# Altium schematic symbol library DNESP32S3M.SCHLIB: 13 symbols
Pins are listed as number, name and electrical type; pins without a type are passive.

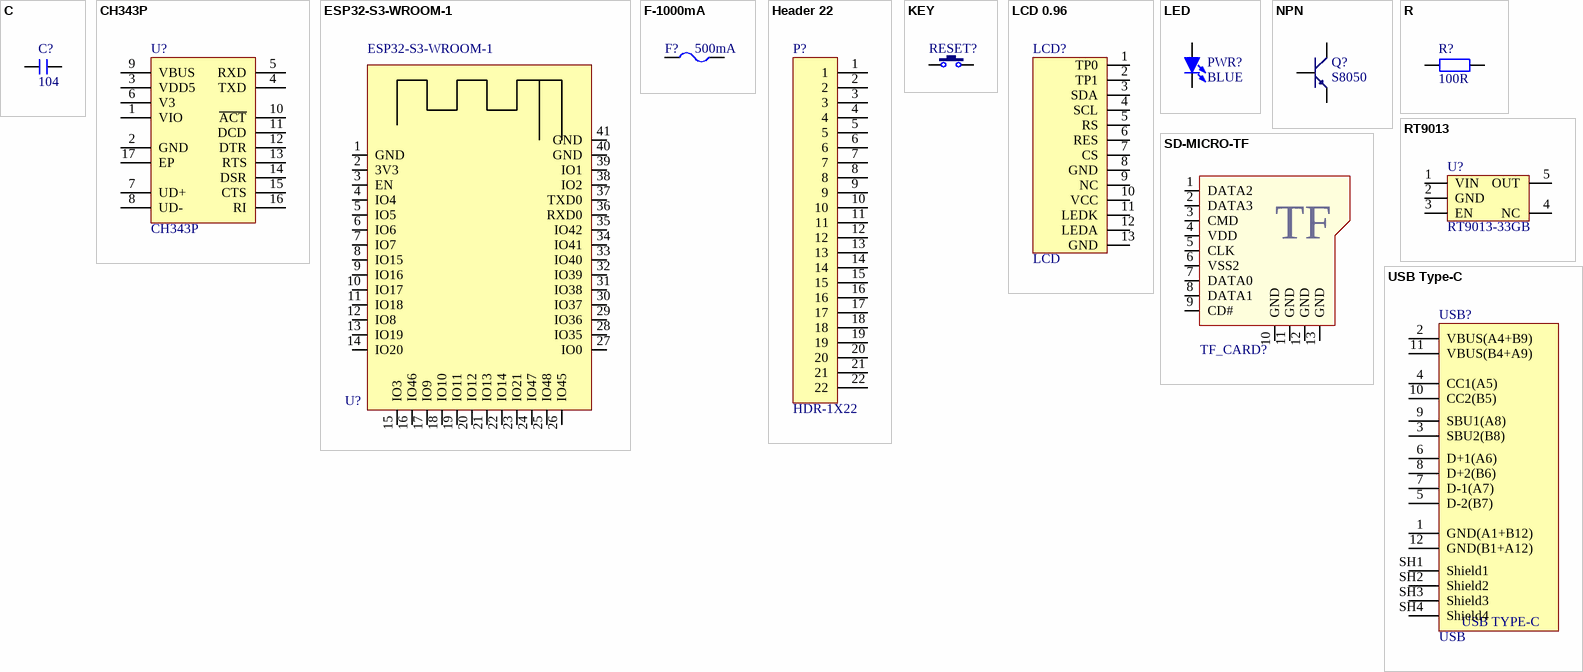
[diagram p0: symbols C to USB Type-C]

## C
designator C?, comment 104
无极性电容; BOM名称: 无极性贴片电容; 版权归属: 正点原子; 学习资源: www.openedv.com
footprint C 0201 (无极性贴片电容)
footprint C 0402 (无极性贴片电容)
footprint C 0603 (无极性贴片电容)
footprint C 0805 (无极性贴片电容)
footprint C 1206 (无极性贴片电容)
footprint C 1210 (无极性贴片电容)
footprint C 1808 (无极性贴片电容)
footprint C 1812 (无极性贴片电容)
footprint C 1825 (无极性贴片电容)
footprint C 2225 (无极性贴片电容)
pins: 1, 2

## CH343P
designator U?
USB2UART
footprint TQFN-16 (CH343P)
footprint QFN-16-1EP_3X3MM_P0.5MM_EP1.75X1.75MM
pins: 1 VIO, 2 GND, 3 VDD5, 4 TXD, 5 RXD, 6 V3, 7 UD+, 8 UD-, 9 VBUS, 10 ~{ACT}, 11 DCD, 12 DTR, 13 RTS, 14 DSR, 15 CTS, 16 RI, 17 EP

## ESP32-S3-WROOM-1
designator U?  (value not drawn)
footprint ESP32-S3-WROOM (ESP32-S3-WROOM模组)
footprint ESP32-S3-WROOM (ESP32-S3-WROOM模组)
footprint ESP32-S3-WROOM (ESP32-S3-WROOM模组)
pins: 1 GND, 2 3V3, 3 EN, 4 IO4, 5 IO5, 6 IO6, 7 IO7, 8 IO15, 9 IO16, 10 IO17, 11 IO18, 12 IO8, 13 IO19, 14 IO20, 15 IO3, 16 IO46, 17 IO9, 18 IO10, 19 IO11, 20 IO12, 21 IO13, 22 IO14, 23 IO21, 24 IO47, 25 IO48, 26 IO45, 27 IO0, 28 IO35, 29 IO36, 30 IO37, 31 IO38, 32 IO39, 33 IO40, 34 IO41, 35 IO42, 36 RXD0, 37 TXD0, 38 IO2, 39 IO1, 40 GND, 41 GND

## F-1000mA
designator F?, comment 500mA
自恢复保险丝
footprint FU 0402 (贴片保险丝(0402))
footprint FU 0603 (贴片保险丝(0603))
footprint FU 0805 (贴片保险丝(0805))
footprint FU 1206 (贴片保险丝(1206))
footprint FU 1210 (贴片保险丝(1210))
footprint FU 1812 (贴片保险丝(1812))
footprint FU 2018 (贴片保险丝(2018))
pins: 1, 2

## Header 22
designator P?, comment HDR-1X22
22P接插件; 版权归属: 正点原子; Parameter: 接插件; 学习资源: www.openedv.com
footprint Header 2.54 1X22P (排针(1X22P,2.54,直插))
pins: 1, 2, 3, 4, 5, 6, 7, 8, 9, 10, 11, 12, 13, 14, 15, 16, 17, 18, 19, 20, 21, 22

## KEY
designator RESET?, comment RST  (value not drawn)
按键; BOM名称: 3x6轻触开关; 版权归属: 正点原子; Parameter: 按键/开关; 学习资源: www.openedv.com
footprint KEY 3.2*4.2*2.5 4P SMD (轻触开关 椭圆形按键 3.2*4.2*2.5mm 4P 贴片)
footprint KEY 3*6*2.5 2P SMD (轻触开关 3*6*2.5mm 2P 贴片)
pins: 1, 2

## LCD 0.96
designator LCD?, comment LCD
0.96 LCD 80*160; BOM名称: 12864 点阵屏; 版权归属: 正点原子; Parameter: 显示器件; 学习资源: www.openedv.com
footprint LCD 0.96 13P
footprint LCD 0.96 13P
pins: 1 TP0, 2 TP1, 3 SDA, 4 SCL, 5 RS, 6 RES, 7 CS, 8 GND, 9 NC, 10 VCC, 11 LEDK, 12 LEDA, 13 GND

## LED
designator PWR?, comment BLUE
LED; BOM名称: 插件LED; 版权归属: 正点原子; Parameter: 发光二极管; 学习资源: www.openedv.com
footprint LED 3MM Red (红色3mm直插LED)
footprint LED 0805 Green (绿色0805LED)
footprint LED 0603 Yellow (黄色0603LED)
footprint LED 0603 Red (红色0603LED)
footprint LED 5MM Red (红色5mm直插LED)
footprint LED 0805 Red (红色0805LED)
footprint LED 0603 Green (绿色0603LED)
footprint LED 1206 Red (红色1206LED)
footprint LED 3MM-YC (橙色3mm直插LED)
footprint LED 3MM Blue (蓝色3mm直插LED)
footprint LED 3MM Green (绿色3mm直插LED)
footprint LED 3MM white (白色3mm直插LED)
footprint LED 3MM Yellow (黄色3mm直插LED)
footprint LED 5MM-YC (橙色5mm直插LED)
footprint LED 5MM Green (绿色5mm直插LED)
footprint LED 5MM white (白色5mm直插LED)
footprint LED 5MM Blue (蓝色5mm直插LED)
footprint LED 0805 Yellow (黄色0805LED)
footprint LED 0603 white (白色0603LED)
footprint LED 0603 Blue (蓝色0603LED)
footprint LED 0805 Blue (蓝色0805LED)
footprint LED 0805 white (白色0805LED)
footprint LED 1206 yellow (黄色1206LED)
footprint LED 1206 white (白色1206LED)
footprint LED 1206 Green (绿色1206LED)
footprint LED 1206 Blue (蓝色1206LED)
pins: 1 A, 2 K

## NPN
designator Q?, comment S8050
8050/BCW846/BCW847
footprint SOT-523
pins: 1 B, 2 E, 3 C

## R
designator R?, comment 100R
贴片电阻; 版权归属: 源创客; BOM名称: 贴片电阻; 学习资源: www.ooocke.com
footprint R 0201 (1/20W贴片电阻)
footprint R 0201-HP (1/20W高精度贴片电阻)
footprint R 0402 (1/16W贴片电阻)
footprint R 0402-HP (1/16W高精度贴片电阻)
footprint R 0603 (1/10W贴片电阻)
footprint R 0603-HP (1/10W高精度贴片电阻)
footprint R 0805 (1/8W贴片电阻)
footprint R 0805-HP (1/8W高精度贴片电阻)
footprint R 1206 (1/4W贴片电阻)
footprint R 1206-HP (1/4W高精度贴片电阻)
footprint R 1210 (1/3W贴片电阻)
footprint R 1210-HP (1/3W高精度贴片电阻)
footprint R 1812 (1/2W贴片电阻)
footprint R 1812-HP (1/2W高精度贴片电阻)
footprint R 2010 (3/4W贴片电阻)
footprint R 2010-HP (3/4W高精度贴片电阻)
footprint R 2512 (1W贴片电阻)
footprint R 2512-HP (1W高精度贴片电阻)
footprint R 0402 NS (1/16W贴片电阻)
footprint R 0603 NS (1/10W贴片电阻)
footprint R 0805 NS (1/8W贴片电阻)
pins: 1, 2

## RT9013
designator U?, comment RT9013-33GB
LDO 5.5V 500mA; BOM名称: 稳压芯片; 版权归属: 正点原子; Parameter: 芯片; 学习资源: www.openedv.com
footprint SOT23-5L (3x1.6x1.1mm(长宽高))
footprint SOT23-5N (3x1.6x1.1mm(长宽高))
footprint SOT23-5M (3x1.6x1.1mm(长宽高))
pins: 1 VIN, 2 GND, 3 EN, 4 NC, 5 OUT

## SD-MICRO-TF
designator TF_CARD?  (value not drawn)
SD,MICRO,TF
footprint SD-MICRO-TF (TF卡座)
pins: 1 DATA2, 2 DATA3, 3 CMD, 4 VDD, 5 CLK, 6 VSS2, 7 DATA0, 8 DATA1, 9 CD#, 10 GND, 11 GND, 12 GND, 13 GND
text: TF

## USB Type-C
designator USB?, comment USB
12P TypeC 母座
footprint USB TYPE-C (USB Type-C 12P/16P)
footprint USB Type-C (USB Type-C 12P/16P)
footprint 0402
footprint USB Type-C (USB Type-C 12P/16P)
pins: 1 GND(A1+B12), 2 VBUS(A4+B9), 3 SBU2(B8), 4 CC1(A5), 5 D-2(B7), 6 D+1(A6), 7 D-1(A7), 8 D+2(B6), 9 SBU1(A8), 10 CC2(B5), 11 VBUS(B4+A9), 12 GND(B1+A12), SH1 Shield1, SH2 Shield2, SH3 Shield3, SH4 Shield4
text: USB TYPE-C